# Altium footprint library C8T6核心板和lv8729.PcbLib: 48 footprints (part 1 of 3)
Each footprint in its own frame and in the unit in brackets; x right, y up, seen from the top. Pads: shape width x height; smd on the part's side, far side on the other; paste and mask are expansions set on the pad; w line width, h text height; cw(c..) or ccw(c..) is an arc to the next point about the centre after c.
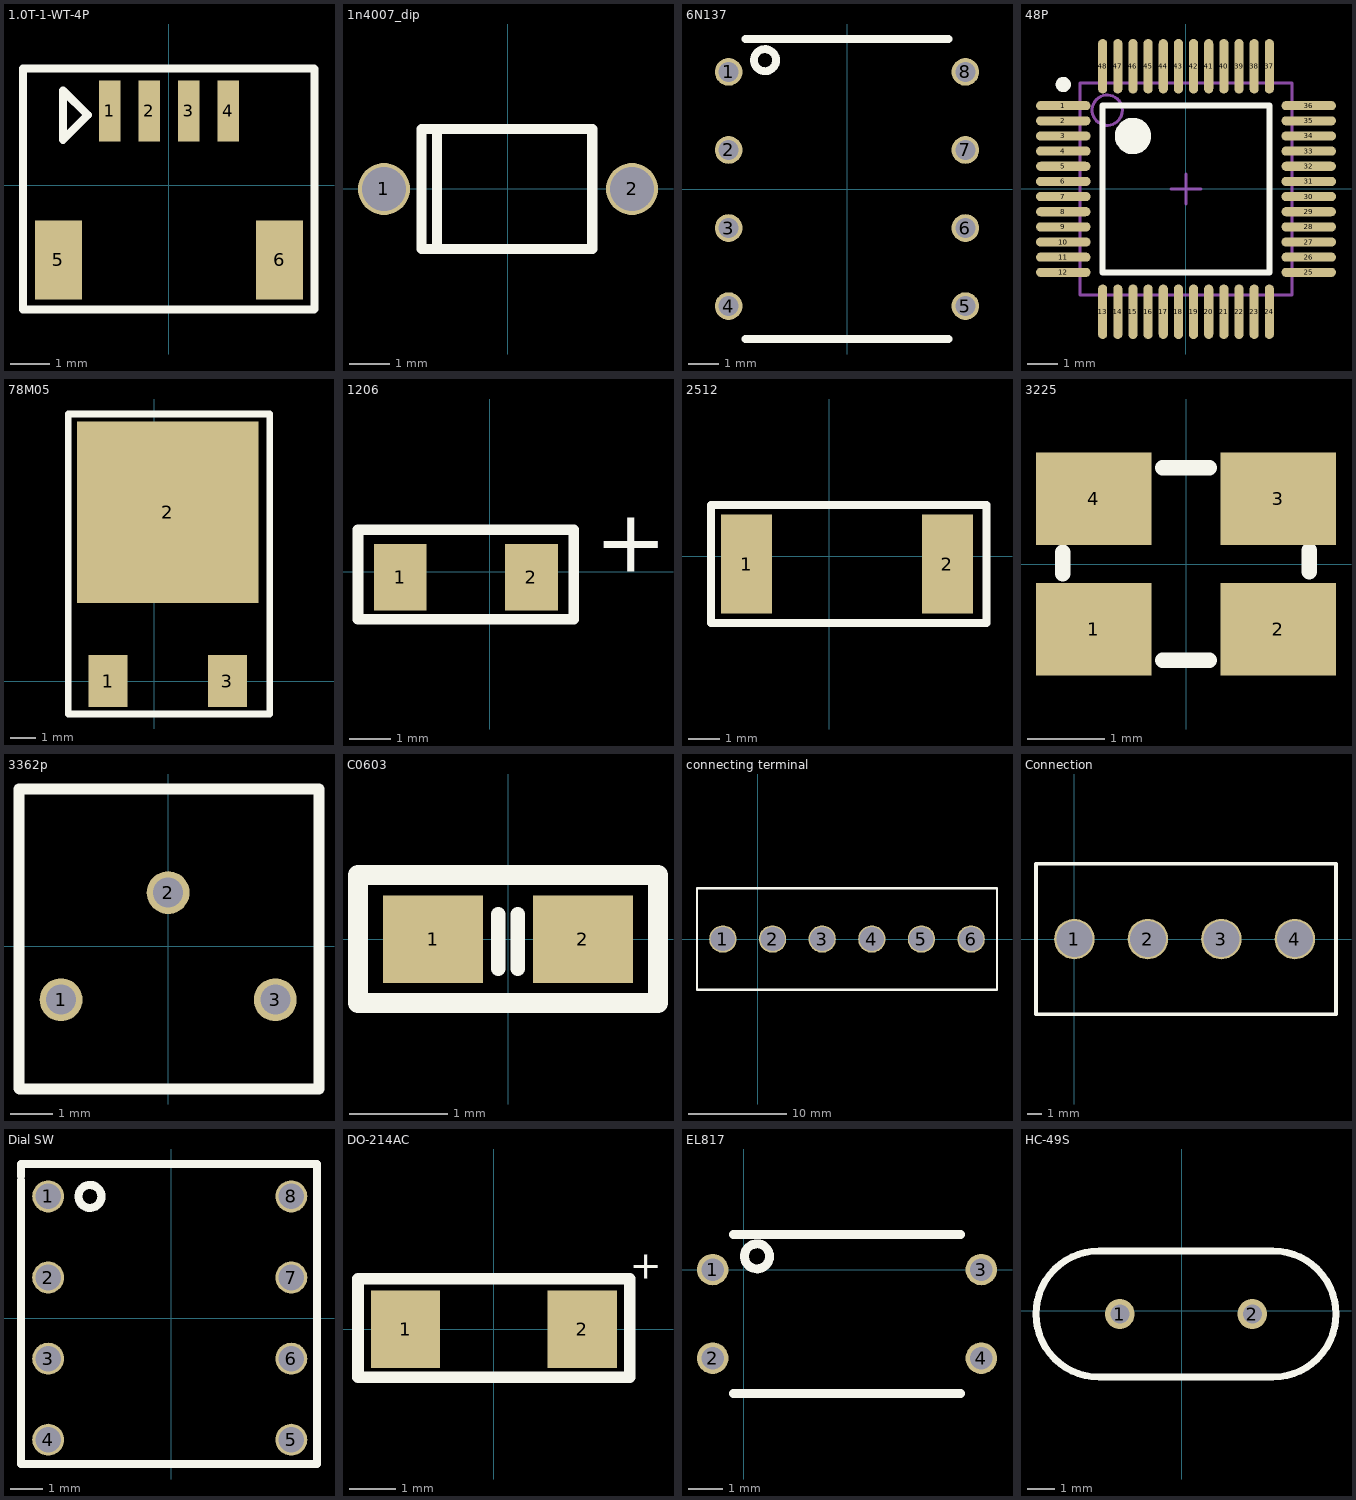
[diagram p0: the footprints below, top view; thin cyan lines are the x and y axes]

## 1.0T-1-WT-4P [mm]
height 1.1
pads (6):
  rect 0.55x1.55 smd: 1(-1.5,1.887) 2(-0.5,1.887) 3(0.5,1.887) 4(1.5,1.887)
  rect 1.2x2 smd: 5(-2.8,-1.887) 6(2.8,-1.887)
Top Overlay:
  lines w0.203: -3.7,-3.143 3.67,-3.143 3.68,-3.133 3.68,-2.913 3.68,2.947 3.67,2.957 -3.7,2.957 -3.7,-3.103 -3.7,-3.143 ; -2.682,1.155 -2.057,1.78 -2.682,2.405 -2.682,1.155

## 1n4007_dip [mm]
pads (2):
  round 1.3 hole 1.1: 1(-3.1,0) 2(3.1,0)
Top Overlay:
  lines w0.254: -1.778,-1.473 -1.778,1.473 ; 2.108,-1.5 0,-1.5 -0.864,-1.5 -2.159,-1.5 -2.159,1.5 0,1.5 0.864,1.5 2.108,1.5 2.108,-1.499

## 6N137 [mm] "快速光耦，6n137DIP双列直插"
pads (8):
  round 0.9 hole 0.65: 1(-3.85,3.81) 2(-3.85,1.27) 3(-3.85,-1.27) 4(-3.85,-3.81) 5(3.85,-3.81) 6(3.85,-1.27) 7(3.85,1.27) 8(3.85,3.81)
Top Overlay:
  circle w0.254: c-2.667,4.191 r0.359
  lines w0.254: -3.302,-4.88 3.302,-4.88 ; -3.302,4.88 3.3,4.88

## 48P [mm]
height 4.32
pads (48):
  oval 1.8x0.3 smd: 1(-4.05,2.75) 2(-4.05,2.25) 3(-4.05,1.75) 4(-4.05,1.25) 5(-4.05,0.75) 6(-4.05,0.25) 7(-4.05,-0.25) 8(-4.05,-0.75) 9(-4.05,-1.25) 10(-4.05,-1.75) 11(-4.05,-2.25) 12(-4.05,-2.75) 25(4.05,-2.75) 26(4.05,-2.25) 27(4.05,-1.75) 28(4.05,-1.25) 29(4.05,-0.75) 30(4.05,-0.25) 31(4.05,0.25) 32(4.05,0.75) 33(4.05,1.25) 34(4.05,1.75) 35(4.05,2.25) 36(4.05,2.75)
  oval 0.3x1.8 smd: 13(-2.75,-4.05) 14(-2.25,-4.05) 15(-1.75,-4.05) 16(-1.25,-4.05) 17(-0.75,-4.05) 18(-0.25,-4.05) 19(0.25,-4.05) 20(0.75,-4.05) 21(1.25,-4.05) 22(1.75,-4.05) 23(2.25,-4.05) 24(2.75,-4.05) 37(2.75,4.05) 38(2.25,4.05) 39(1.75,4.05) 40(1.25,4.05) 41(0.75,4.05) 42(0.25,4.05) 43(-0.25,4.05) 44(-0.75,4.05) 45(-1.25,4.05) 46(-1.75,4.05) 47(-2.25,4.05) 48(-2.75,4.05)
Top Overlay:
  circle w0.6: c-1.75,1.75 r0.3
  circle w0.25: c-4.05,3.45 r0.125
  lines w0.2: -2.75,-2.75 2.75,-2.75 2.75,2.75 -2.75,2.75 -2.75,-2.75
Mechanical 13:
  circle w0.1: c-2.6,2.6 r0.5
  lines w0.1: -3.5,-3.5 3.5,-3.5 3.5,3.5 -3.5,3.5 -3.5,-3.5
Mechanical 15:
  lines w0.1: -0.5,0 0.5,0 ; 0,-0.5 0,0.5
3D body: height 1.6, standoff 0, extent -3.5,-3.5 3.5,3.5

## 78M05 [mm] "D_PAK"
pads (3):
  rect 1.5x2 smd: 1(-1.778,0) 3(2.822,0)
  rect 7x7 smd: 2(0.522,6.5)
Top Overlay:
  lines w0.254: -3.302,-1.27 4.445,-1.27 4.445,10.287 -3.302,10.287 -3.302,-1.27

## 1206 [mil] "稳压二极管玻璃管"
pads (2):
  rect 50x62.99 smd: 1(-85,-5) 2(39.8,-5)
Top Overlay:
  lines w10: -125,-45 80,-45 80,40 -125,40 -125,-45
  text "+" at 100,0 h60

## 2512 [mm] "可用于R220封装"
pads (2):
  rect 1.65x3.2 smd: 1(-2.667,-0.254) 2(3.813,-0.254)
Top Overlay:
  lines w0.254: -3.81,-2.159 5.08,-2.159 5.08,1.651 -3.81,1.651 -3.81,-2.159

## 3225 [mm]
height 1.6
pads (4):
  rect 1.5x1.2 smd: 1(-1.2,-0.85) 2(1.2,-0.85) 3(1.2,0.85) 4(-1.2,0.85)
Top Overlay:
  lines w0.2: -1.6,-0.127 -1.6,0.153 ; -0.305,-1.25 0.305,-1.25 ; -0.305,1.25 0.305,1.25 ; 1.6,-0.102 1.6,0.178

## 3362p [mm] "滑变"
pads (3):
  round 1 hole 0.7: 1(-2.5,-1.25) 2(0,1.25) 3(2.5,-1.25)
Top Overlay:
  lines w0.254: -3.48,-3.317 -3.48,-2.333 -3.48,3.667 0.02,3.667 3.52,3.667 ; -3.464,-3.333 -0.575,-3.333 1.203,-3.333 3.52,-3.333 3.52,-2.333 3.52,3.636

## C0603 [mil]
height 170.08
pads (2):
  rect 40x35 smd: 1(-29.92,0) 2(29.92,0)
Top Overlay:
  lines w5.91: -3.94,-11.81 -3.94,9.84 ; 3.94,-11.81 3.94,9.84
  lines w7.87: -60,-25.59 -60,25.59 60,25.59 60,-25.59 -60,-25.59

## connecting terminal [mm] "接线端子"
pads (6):
  round 2.8 hole 2.5: 1(-3.556,0) 2(1.524,0) 3(6.604,0) 4(11.684,0) 5(16.764,0) 6(21.844,0)
Top Overlay:
  lines w0.254: -6.206,-5.2 -6.206,0 -6.206,5.207 24.494,5.207 24.494,0 24.494,-5.2 -6.206,-5.2

## Connection [mm] "接线端子4pin"
pads (4):
  round 2.8 hole 2.5: 1(0,0) 2(5.08,0) 3(10.16,0) 4(15.24,0)
Top Overlay:
  lines w0.254: -2.65,-5.2 18.085,-5.2 18.085,1.77 18.085,5.207 -2.65,5.207 -2.65,0 -2.65,-5.2

## Dial SW [mm] "拨码开关"
pads (8):
  round 1 hole 0.8: 1(-3.85,3.81) 2(-3.85,1.27) 3(-3.85,-1.27) 4(-3.85,-3.81) 5(3.77,-3.81) 6(3.77,-1.27) 7(3.77,1.27) 8(3.77,3.81)
Top Overlay:
  circle w0.254: c-2.54,3.81 r0.359
  lines w0.254: -4.699,4.318 -4.699,-4.572 4.572,-4.572 4.572,4.826 -4.699,4.826 -4.699,4.445

## DO-214AC [mm] "用于1N4007"
pads (2):
  rect 1.5x1.67 smd: 1(-1.915,0) 2(1.915,0)
Top Overlay:
  lines w0.254: -2.946,-1.041 -2.946,1.092 2.946,1.092 2.946,-1.041 -2.946,-1.041
  text "+" at 2.946,1.092 h0.61

## EL817 [mm] "小光耦,非m，s"
pads (4):
  round 0.9 hole 0.65: 1(-0.889,0) 2(-0.889,-2.54) 3(6.811,0) 4(6.811,-2.54)
Top Overlay:
  circle w0.254: c0.381,0.381 r0.359
  lines w0.254: -0.289,-3.556 6.211,-3.556 ; -0.289,1.01 6.211,1.01

## HC-49S [mm] "8MHz   XTAL"
pads (2):
  round 1.1 hole 0.7: 1(-2.286,-0.127) 2(2.594,-0.127)
Top Overlay:
  lines w0.254: -3.046,-2.452 cw(c-3.048,-0.127) -3.046,2.198 3.354,2.198 cw(c3.354,-0.127) 3.354,-2.452 -3.046,-2.452